# Altium schematic symbol library Other.SchLib: 8 symbols
Pins are listed as number, name and electrical type; pins without a type are passive.

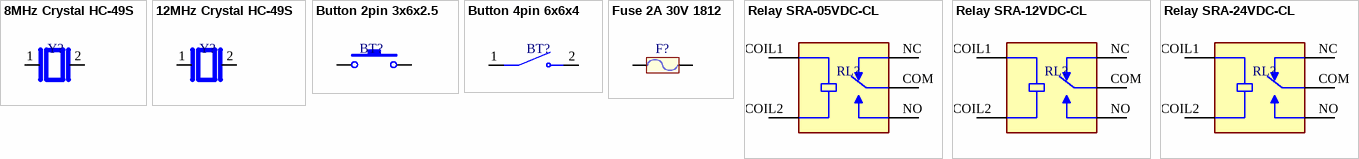
[diagram p0: symbols 8MHz Crystal HC-49S to Relay SRA-24VDC-CL]

## 8MHz Crystal HC-49S
designator Y?, comment 8MHz  (value not drawn)
SMD
footprint HC-49S (SMD)
pins: 1, 2

## 12MHz Crystal HC-49S
designator Y?, comment 12MHz  (value not drawn)
SMD
footprint HC-49S (SMD)
pins: 1, 2

## Button 2pin 3x6x2.5
designator BT?, comment Button smd  (value not drawn)
SMD
footprint BT 2PIN 3x6x2.5
pins: 1, 2

## Button 4pin 6x6x4
designator BT?, comment Button  (value not drawn)
SMD
footprint BT 4Pin 6x6x4
pins: 1, 2

## Fuse 2A 30V 1812
designator F?, comment Fuse 2A 30V  (value not drawn)
SMD
footprint Fuse SMD 1812
pins: 1, 2

## Relay SRA-05VDC-CL
designator RL?, comment Relay 5VDC  (value not drawn)
DIP
footprint SRA-(X)VDC-CL
pins: COIL1, COIL2, COM, NC, NO

## Relay SRA-12VDC-CL
designator RL?, comment Relay 12VDC  (value not drawn)
DIP
footprint SRA-(X)VDC-CL
pins: COIL1, COIL2, COM, NC, NO

## Relay SRA-24VDC-CL
designator RL?, comment Relay 24VDC  (value not drawn)
DIP
footprint SRA-(X)VDC-CL
pins: COIL1, COIL2, COM, NC, NO